# Altium schematic symbol library QUTMS_MUXLibrary.SchLib: 1 symbol
Pins are listed as number, name and electrical type; pins without a type are passive.

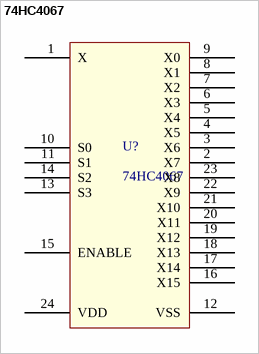
[diagram p0: symbol 74HC4067]

## 74HC4067
designator U?
footprint 74HC4067 TSSOP24
pins: 1 X, 2 X7, 3 X6, 4 X5, 5 X4, 6 X3, 7 X2, 8 X1, 9 X0, 10 S0, 11 S1, 12 VSS, 13 S3, 14 S2, 15 ENABLE, 16 X15, 17 X14, 18 X13, 19 X12, 20 X11, 21 X10, 22 X9, 23 X8, 24 VDD